# EAGLE library part TB6600-H (library TB6600HG-H)
TB6600HG PWM Chopper-Type bipolar Stepping Motor Driver IC The TB6600HG is a PWM chopper-type single-chip bipolar sinusoidal micro-step stepping motor driver. Forward and reverse rotation control is available with 2-phase, 1-2-phase, W1-2-phase, 2W1-2-phase, and 4W1-2-phase excitation modes. 2-phase bipolar-type stepping motor can be driven by only clock signal with low vibration and high efficiency.
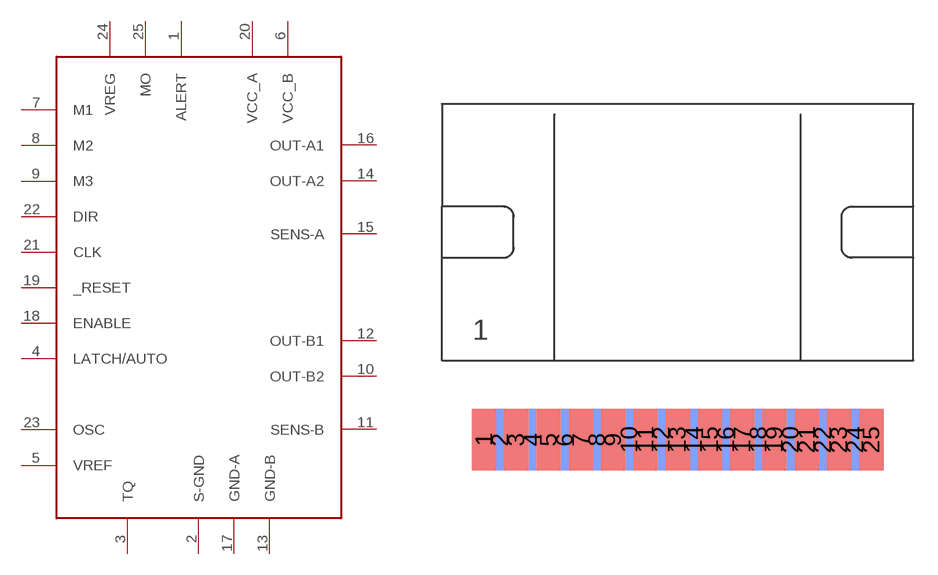
[diagram p0: symbol with the pads of TB6600-H; footprint TB6600-H]

Designator prefix -

## TB6600-H  [TB6600-H]
1  ALERT
2  S-GND
3  TQ
4  LATCH/AUTO
5  VREF
6  VCC_B
7  M1
8  M2
9  M3
10  OUT-B2  out
11  SENS-B
12  OUT-B1  out
13  GND-B
14  OUT-A2  out
15  SENS-A
16  OUT-A1  out
17  GND-A
18  ENABLE
19  _RESET
20  VCC_A
21  CLK
22  DIR
23  OSC
24  VREG
25  MO

## Footprint TB6600-H (pad centres in mm)
smd 1.5 x 3.8: 1 -12,-10; 3 -10,-10; 5 -8,-10; 7 -6,-10; 9 -4,-10; 11 -2,-10; 13 0,-10; 15 2,-10; 17 4,-10; 19 6,-10; 21 8,-10; 23 10,-10; 25 12,-10
smd 1.5 x 3.8 bottom: 2 -11,-10; 4 -9,-10; 6 -7,-10; 8 -5,-10; 10 -3,-10; 12 -1,-10; 14 1,-10; 16 3,-10; 18 5,-10; 20 7,-10; 22 9,-10; 24 11,-10